# Altium footprint library PCB - LEADED - SOP - ANALOG MSOP-10.PcbLib: 1 footprints
Each footprint in its own frame and in the unit in brackets; x right, y up, seen from the top. Pads: shape width x height; smd on the part's side, far side on the other; paste and mask are expansions set on the pad; w line width, h text height; cw(c..) or ccw(c..) is an arc to the next point about the centre after c.
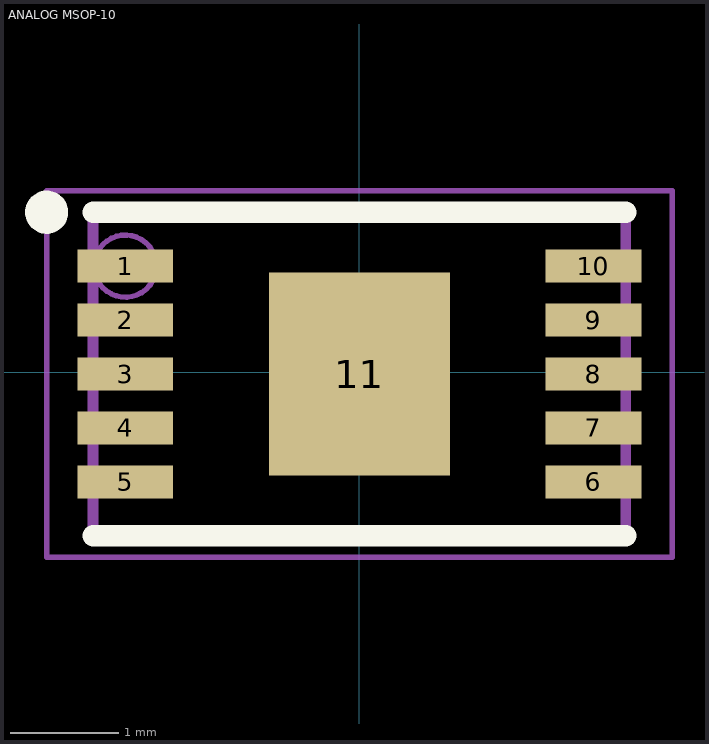
[diagram p0: the footprint, top view; thin cyan lines are the x and y axes]

## ANALOG MSOP-10 [mm] "MSOP-10 Package, 0.5mm Pitch, 3.00x3.00 mm Body"
height 1.1
pads (11):
  rect 0.889x0.305 smd: 1(-2.17,0.982) 2(-2.17,0.482) 3(-2.17,-0.018) 4(-2.17,-0.518) 5(-2.17,-1.018) 6(2.171,-1.018) 7(2.171,-0.518) 8(2.171,-0.018) 9(2.171,0.482) 10(2.171,0.982)
  rect 1.68x1.88 smd: 11(0,-0.018)
Top Overlay:
  circle w0.2: c-2.9,1.482 r0.1
  lines w0.2: -2.469,-1.518 2.469,-1.518 ; -2.469,1.482 2.469,1.482
Mechanical 13:
  circle w0.05: c-2.17,0.982 r0.288
  lines w0.1: -2.469,-1.518 2.469,-1.518 2.469,1.482 -2.469,1.482 -2.469,-1.518
Mechanical 15 (Mech15):
  lines w0.05: -2.9,-1.718 2.9,-1.718 2.9,1.682 -2.9,1.682 -2.9,-1.718
  lines w0.1: -0.5,-0.018 0,-0.018 ; 0,-0.518 0,-0.018 ; 0,0.482 0,-0.018 ; 0.5,-0.018 0,-0.018
3D body: height 1.11, standoff -0.15, extent -2.469,-1.518 2.469,1.482